# Altium integrated library switch3.IntLib: 1 symbol
Pins are listed as number, name and electrical type; pins without a type are passive.

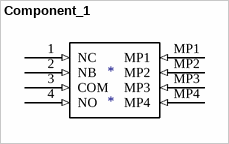
[diagram p0: symbol Component_1]

## Component_1
designator *
footprint PCBComponent_1
pins: 1 NC (in), 2 NB (in), 3 COM (in), 4 NO (in), MP1 (in), MP2 (in), MP3 (in), MP4 (in)